# EAGLE library part 610018243021 (library main_controller)
WR-PHD 2.54mm SMT Socket Header=>Code : Con_BTB_SHD_2.54_1_SMT_610x0421821(packageing:x = 0: Tube x = 3: Tape & Reel with Cap; 600 pcs/Reel) <http://katalog.we-online.de/media/images/eican/Con_BTB_SHD_2.54_1_SMT_6100xx21821_pf2.jpg> 6100xx21821 Details see: http://katalog.we-online.de/en/em/PHD_2_54_SMT_DUAL_SOCKET_HEADER_6100XX21821 6103xx21821 Details see: http://katalog.we-online.de/en/em/PHD_2_54_SMT_DUAL_SOCKET_HEADER_REEL_6103XX21821 2014 (C) Würth Elektronik
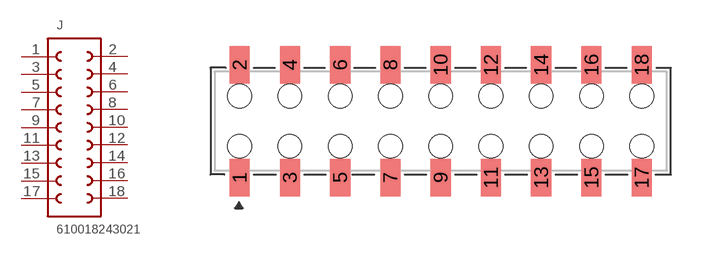
[diagram p2: symbol with the pads of 610X1821821; footprint 610X1821821]

Designator prefix J

## 610018243021 (MF: Würth Elektronik; MPN: 610018243021)  [610X1821821]
1  1  pas
2  18  pas
3  2  pas
4  17  pas
5  3  pas
6  16  pas
7  4  pas
8  15  pas
9  5  pas
10  14  pas
11  6  pas
12  13  pas
13  7  pas
14  12  pas
15  8  pas
16  11  pas
17  9  pas
18  10  pas

## Footprint 610X1821821 (pad centres in mm)
WR-PHD 2.54mm Dual SMT Socket Header, 18 Pins
smd 1.02 x 1.9: 1 -10.16,-2.85; 2 -10.16,2.85; 3 -7.62,-2.85; 4 -7.62,2.85; 5 -5.08,-2.85; 6 -5.08,2.85; 7 -2.54,-2.85; 8 -2.54,2.85; 9 0,-2.85; 10 0,2.85; 11 2.54,-2.85; 12 2.54,2.85; 13 5.08,-2.85; 14 5.08,2.85; 15 7.62,-2.85; 16 7.62,2.85; 17 10.16,-2.85; 18 10.16,2.85
hole 1.2 at -10.16,-1.27
hole 1.2 at -7.62,-1.27
hole 1.2 at -7.62,1.27
hole 1.2 at -10.16,1.27
hole 1.2 at -5.08,-1.27
hole 1.2 at -5.08,1.27
hole 1.2 at -2.54,1.27
hole 1.2 at -2.54,-1.27
hole 1.2 at 0,-1.27
hole 1.2 at 0,1.27
hole 1.2 at 2.54,-1.27
hole 1.2 at 2.54,1.27
hole 1.2 at 5.08,1.27
hole 1.2 at 5.08,-1.27
hole 1.2 at 7.62,1.27
hole 1.2 at 7.62,-1.27
hole 1.2 at 10.16,-1.27
hole 1.2 at 10.16,1.27